# Altium schematic symbol library SCH - BATTERY - MPD BH9VPC.SCHLIB: 1 symbol
Pins are listed as number, name and electrical type; pins without a type are passive.

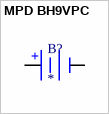
[diagram p0: symbol MPD BH9VPC]

## MPD BH9VPC
designator B?
pins: 1 +, 2 -